# EAGLE library part 4455-B15_S (library con-molex-kk)
RECEPTACAL
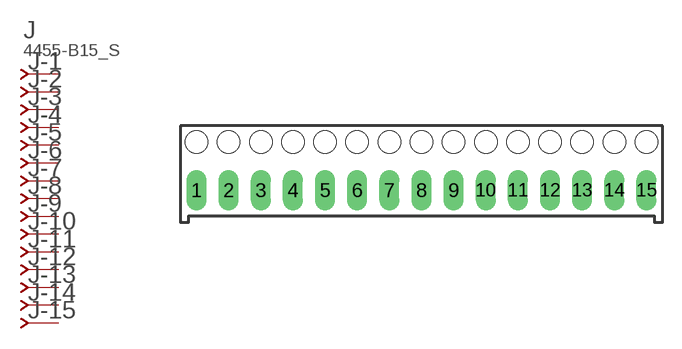
[diagram p63: symbol with the pads of 4455-B15; footprint 4455-B15]

Designator prefix J; gates -1=J-NV -2=J-N -3=J-N -4=J-N -5=J-N -6=J-N -7=J-N -8=J-N -9=J-N -10=J-N -11=J-N -12=J-N -13=J-N -14=J-N -15=J-N

## 4455-B15_S  [4455-B15]
1  -1:J  pas
2  -2:J  pas
3  -3:J  pas
4  -4:J  pas
5  -5:J  pas
6  -6:J  pas
7  -7:J  pas
8  -8:J  pas
9  -9:J  pas
10  -10:J  pas
11  -11:J  pas
12  -12:J  pas
13  -13:J  pas
14  -14:J  pas
15  -15:J  pas

## Footprint 4455-B15 (pad centres in mm)
RECEPTACAL Vertical, Bottom Entry, 0.1" pitch
drill 1.067 long: 1 -17.78,0; 2 -15.24,0; 3 -12.7,0; 4 -10.16,0; 5 -7.62,0; 6 -5.08,0; 7 -2.54,0; 8 0,0; 9 2.54,0; 10 5.08,0; 11 7.62,0; 12 10.16,0; 13 12.7,0; 14 15.24,0; 15 17.78,0
hole 1.778 at -17.78,3.81
hole 1.778 at -15.24,3.81
hole 1.778 at -12.7,3.81
hole 1.778 at -10.16,3.81
hole 1.778 at -7.62,3.81
hole 1.778 at -5.08,3.81
hole 1.778 at -2.54,3.81
hole 1.778 at 0,3.81
hole 1.778 at 2.54,3.81
hole 1.778 at 5.08,3.81
hole 1.778 at 7.62,3.81
hole 1.778 at 10.16,3.81
hole 1.778 at 12.7,3.81
hole 1.778 at 15.24,3.81
hole 1.778 at 17.78,3.81